# EAGLE library part SN65HVD230 (library agsys-valvecontrol)
SN65HVD230 CAN Transceiver
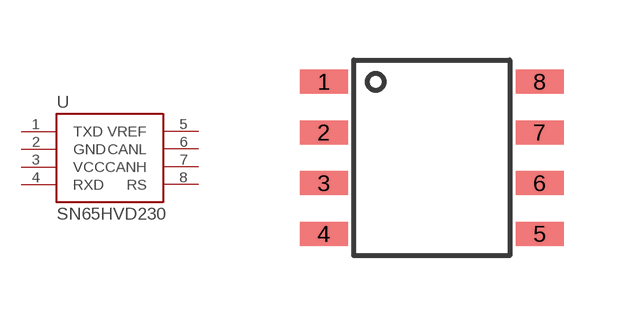
[diagram p3: symbol with the pads of SOIC-8; footprint SOIC-8]

Designator prefix U

## SN65HVD230  [SOIC-8]
1  TXD  in
2  GND  pwr
3  VCC  pwr
4  RXD  out
5  VREF  out
6  CANL
7  CANH
8  RS  in

## Footprint SOIC-8 (pad centres in mm)
SOIC-8 - SN65HVD230, FM25V02, W25Q16
smd 1.2 x 0.6: 1 -2.7,1.905; 2 -2.7,0.635; 3 -2.7,-0.635; 4 -2.7,-1.905; 5 2.7,-1.905; 6 2.7,-0.635; 7 2.7,0.635; 8 2.7,1.905